# EAGLE library part AD8331 (library NMR-relaxometry)
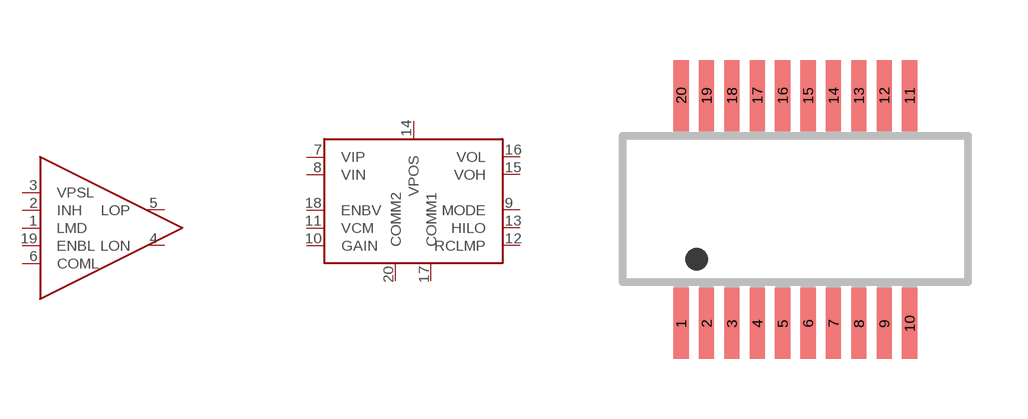
[diagram p0: symbol with the pads of QSOP-20; footprint QSOP-20]

Designator prefix -; gates G$1=AD8331-LNA G$2=AD8331

## AD8331  [QSOP-20]
1  G$1:LMD  pas
2  G$1:INH  in
3  G$1:VPSL  pwr
4  G$1:LON  out
5  G$1:LOP  out
6  G$1:COML  pwr
7  G$2:VIP  in
8  G$2:VIN  in
9  G$2:MODE  in
10  G$2:GAIN  in
11  G$2:VCM  pas
12  G$2:RCLMP  pas
13  G$2:HILO  in
14  G$2:VPOS  pwr
15  G$2:VOH  out
16  G$2:VOL  out
17  G$2:COMM1  pwr
18  G$2:ENBV  in
19  G$1:ENBL  in
20  G$2:COMM2  pwr

## Footprint QSOP-20 (pad centres in mm)
smd 0.381 x 1.778: 1 -2.857,-2.854; 2 -2.223,-2.854; 3 -1.587,-2.854; 4 -0.953,-2.854; 5 -0.318,-2.854; 6 0.318,-2.854; 7 0.953,-2.854; 8 1.587,-2.854; 9 2.223,-2.854; 10 2.857,-2.854; 11 2.857,2.854; 12 2.223,2.854; 13 1.587,2.854; 14 0.953,2.854; 15 0.318,2.854; 16 -0.318,2.854; 17 -0.953,2.854; 18 -1.587,2.854; 19 -2.223,2.854; 20 -2.857,2.854